# EAGLE library part IC_SI4707 (library dp_devices)
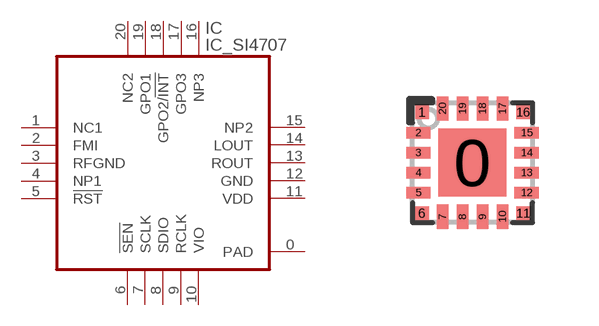
[diagram p60: symbol with the pads of QFN-20; footprint QFN-20]

Designator prefix IC

## IC_SI4707  [QFN-20]
0  PAD
1  NC1
2  FMI
3  RFGND
4  NP1
5  !RST
6  !SEN
7  SCLK
8  SDIO
9  RCLK
10  VIO
11  VDD
12  GND
13  ROUT
14  LOUT
15  NP2
16  NP3
17  GPO3
18  GPO2/!INT
19  GPO1
20  NC2

## Footprint QFN-20 (pad centres in mm)
smd 1.7 x 1.7: 0 0,0
smd 0.34 x 0.34: 1 -1.265,1.265; 6 -1.265,-1.265; 11 1.265,-1.265; 16 1.265,1.265
smd 0.61 x 0.28: 2 -1.355,0.75; 3 -1.355,0.25; 4 -1.355,-0.25; 5 -1.355,-0.75; 12 1.355,-0.75; 13 1.355,-0.25; 14 1.355,0.25; 15 1.355,0.75
smd 0.28 x 0.61: 7 -0.75,-1.355; 8 -0.25,-1.355; 9 0.25,-1.355; 10 0.75,-1.355; 17 0.75,1.355; 18 0.25,1.355; 19 -0.25,1.355; 20 -0.75,1.355